# Altium footprint library wius.PcbLib: 37 footprints (part 3 of 3)
Each footprint in its own frame and in the unit in brackets; x right, y up, seen from the top. Pads: shape width x height; smd on the part's side, far side on the other; paste and mask are expansions set on the pad; w line width, h text height; cw(c..) or ccw(c..) is an arc to the next point about the centre after c.
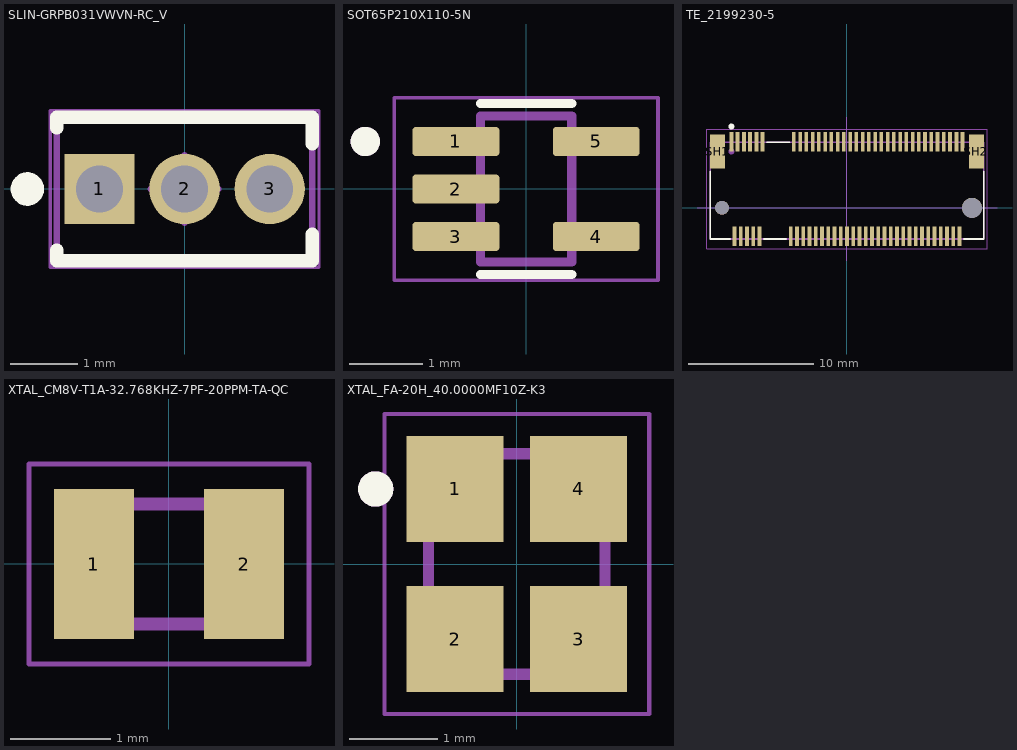
[diagram p2: the footprints below, top view; thin cyan lines are the x and y axes]

## SLIN-GRPB031VWVN-RC_V [mm] "Header, 3-Leads, Body 3.81x2.14mm, Pitch 1.27mm"
height 4
pads (3):
  rect 1.05x1.05 hole 0.7: 1(-1.27,0)
  round 1.05 hole 0.7: 2(0,0) 3(1.27,0)
Top Overlay:
  circle w0.25: c-2.345,0 r0.125
  lines w0.2: -1.905,-0.91 -1.905,-1.07 1.905,-1.07 1.905,-0.673 ; -1.905,0.91 -1.905,1.07 1.905,1.07 1.905,0.673
Top 3D Body:
  lines w0.1: -1.905,-1.07 1.905,-1.07 1.905,1.07 -1.905,1.07 -1.905,-1.07
Top Courtyard:
  lines w0.05: -2.005,-1.17 -2.005,1.17 2.005,1.17 2.005,-1.17 -2.005,-1.17
  lines w0.1: -0.5,0 0.5,0 ; 0,-0.5 0,0.5
3D body "_ _ _B031VWVN-RC.STEP": height 4, standoff -2.3, extent -1.905,-1.07 1.905,1.07

## SOT65P210X110-5N [mm]
pads (5):
  rrect25% 1.19x0.4 smd: 1(-0.96,0.65) 2(-0.96,0) 3(-0.96,-0.65) 4(0.96,-0.65) 5(0.96,0.65)
Top Overlay:
  circle w0.2: c-2.2,0.65 r0.1
  lines w0.127: -0.625,-1.17 0.625,-1.17 ; -0.625,1.17 0.625,1.17
Top 3D Body:
  circle w0.2: c-2.2,0.65 r0.1
  lines w0.127: -0.625,-1 0.625,-1 0.625,1 -0.625,1 -0.625,-1
Top Courtyard:
  lines w0.05: -1.805,-1.25 1.805,-1.25 1.805,1.25 -1.805,1.25 -1.805,-1.25

## TE_2199230-5 [mm]
height 2.5
pads (71):
  rect 0.3x1.55 smd: 1(-9.25,5.275) 2(-9,-2.275) 3(-8.75,5.275) 4(-8.5,-2.275) 5(-8.25,5.275) 6(-8,-2.275) 7(-7.75,5.275) 8(-7.5,-2.275) 9(-7.25,5.275) 10(-7,-2.275) 11(-6.75,5.275) 20(-4.5,-2.275) 21(-4.25,5.275) 22(-4,-2.275) 23(-3.75,5.275) 24(-3.5,-2.275) 25(-3.25,5.275) 26(-3,-2.275) 27(-2.75,5.275) 28(-2.5,-2.275) 29(-2.25,5.275) 30(-2,-2.275) 31(-1.75,5.275) 32(-1.5,-2.275) 33(-1.25,5.275) 34(-1,-2.275) 35(-0.75,5.275) 36(-0.5,-2.275) 37(-0.25,5.275) 38(0,-2.275) 39(0.25,5.275) 40(0.5,-2.275) 41(0.75,5.275) 42(1,-2.275) 43(1.25,5.275) 44(1.5,-2.275) 45(1.75,5.275) 46(2,-2.275) 47(2.25,5.275) 48(2.5,-2.275) 49(2.75,5.275) 50(3,-2.275) 51(3.25,5.275) 52(3.5,-2.275) 53(3.75,5.275) 54(4,-2.275) 55(4.25,5.275) 56(4.5,-2.275) 57(4.75,5.275) 58(5,-2.275) 59(5.25,5.275) 60(5.5,-2.275) 61(5.75,5.275) 62(6,-2.275) 63(6.25,5.275) 64(6.5,-2.275) 65(6.75,5.275) 66(7,-2.275) 67(7.25,5.275) 68(7.5,-2.275) 69(7.75,5.275) 70(8,-2.275) 71(8.25,5.275) 72(8.5,-2.275) 73(8.75,5.275) 74(9,-2.275) 75(9.25,5.275)
  rect 1.2x2.75 smd: SH1(-10.35,4.5) SH2(10.35,4.5)
  round 1.1 hole 1.1 unplated: ""(-10,0)
  round 1.6 hole 1.6 unplated: ""(10,0)
Top Overlay:
  circle w0.24: c-9.25,6.5 r0.12
  lines w0.127: -10.95,2.9 -10.95,-2.5 -9.35,-2.5 ; -6.65,-2.5 -4.85,-2.5 ; -6.4,5.25 -4.6,5.25 ; 9.35,-2.5 10.95,-2.5 10.95,2.9
Top 3D Body:
  circle w0.24: c-9.25,4.5 r0.12
  lines w0.05: -12,0 12,0 ; 0,-4.25 0,7.25
  lines w0.127: -10.95,-2.5 -10.95,5.25 10.95,5.25 10.95,-2.5 -10.95,-2.5
Top Courtyard:
  lines w0.05: -11.2,-3.3 -11.2,6.3 11.2,6.3 11.2,-3.3 -11.2,-3.3
3D body "step_temp.STEP": height 4.1, standoff -0.6, extent -10.95,-2.85 10.95,5.85

## XTAL_CM8V-T1A-32.768KHZ-7PF-20PPM-TA-QC [mm]
pads (2):
  rect 0.8x1.5 smd: 1(-0.75,0) 2(0.75,0)
Top 3D Body:
  lines w0.127: -1,-0.6 -1,0.6 1,0.6 1,-0.6 -1,-0.6
Top Courtyard:
  lines w0.05: -1.4,-1 -1.4,1 1.4,1 1.4,-1 -1.4,-1
3D body "step_temp.STEP": height 0.6, standoff 0, extent -1,-0.6 1,0.6

## XTAL_FA-20H_40.0000MF10Z-K3 [mm]
pads (4):
  rect 1.1x1.2 smd: 1(-0.7,0.85) 2(-0.7,-0.85) 3(0.7,-0.85) 4(0.7,0.85)
Top Overlay:
  circle w0.2: c-1.6,0.85 r0.1
Top 3D Body:
  circle w0.2: c-1.6,0.85 r0.1
  lines w0.127: -1,-1.25 -1,1.25 1,1.25 1,-1.25 -1,-1.25
Top Courtyard:
  lines w0.05: -1.5,-1.7 -1.5,1.7 1.5,1.7 1.5,-1.7 -1.5,-1.7
3D body "step_temp.STEP": height 0.55, standoff 0, extent -1,-1.25 1,1.25